# EAGLE library part ISO7221ADR (library NASA_LIB)
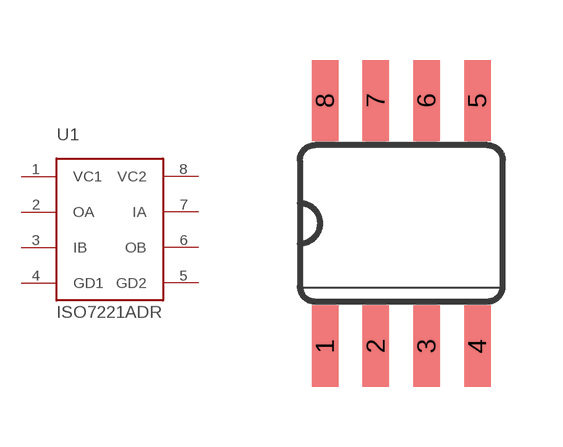
[diagram p38: symbol with the pads of SO08; footprint SO08]

Designator prefix U1

## ISO7221ADR  [SO08]
1  VC1
2  OA
3  IB
4  GD1
5  GD2
6  OB
7  IA
8  VC2

## Footprint SO08 (pad centres in mm)
smd 0.66 x 2.032: 1 -1.905,-3.073; 2 -0.635,-3.073; 3 0.635,-3.073; 4 1.905,-3.073; 5 1.905,3.073; 6 0.635,3.073; 7 -0.635,3.073; 8 -1.905,3.073